# Altium footprint library 2019-09-27_18-48-38.PcbLib: 3 footprints
Each footprint in its own frame and in the unit in brackets; x right, y up, seen from the top. Pads: shape width x height; smd on the part's side, far side on the other; paste and mask are expansions set on the pad; w line width, h text height; cw(c..) or ccw(c..) is an arc to the next point about the centre after c.
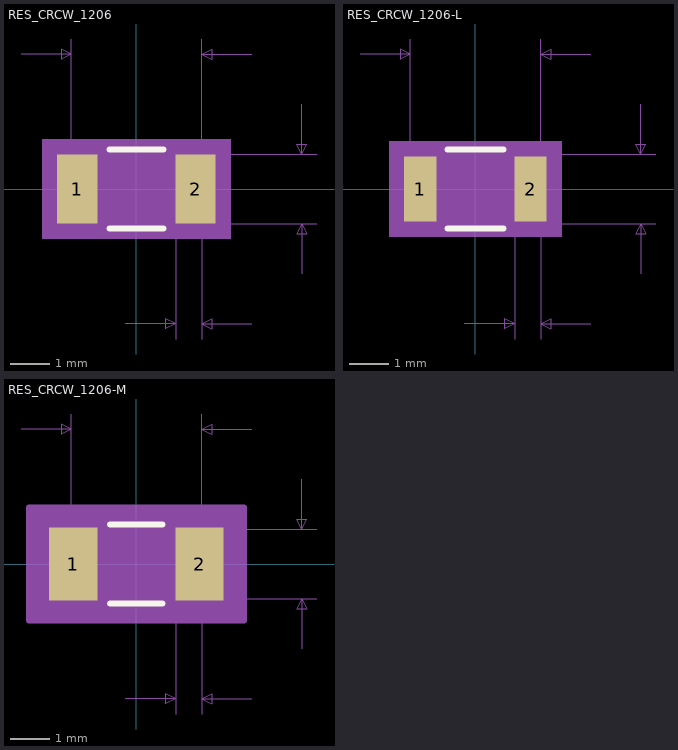
[diagram p0: the footprints below, top view; thin cyan lines are the x and y axes]

## RES_CRCW_1206 [mil]
pads (2):
  rect 40x69 smd paste+0 mask+0: 1(-59,0) 2(59,0)
Top Overlay:
  lines w6: -26.89,-39.5 26.89,-39.5 ; -26.89,39.5 26.89,39.5
Mechanical 5:
  region: 94,-49.5 -94,-49.5 -94,49.5 94,49.5
Mechanical 7:
  lines w1: -115,134.5 -65,134.5 ; -65,0 -65,149.5 ; -11,-134.5 39,-134.5 ; 0,-34.5 180,-34.5 ; 0,34.5 180,34.5 ; 39,-149.5 39,0 ; 65,-149.5 65,0 65,149.5 ; 115,-134.5 65,-134.5 ; 115,134.5 65,134.5 ; 165,-84.5 165,-34.5 ; 165,84.5 165,34.5 ; -65,134.5 -75,139.5 -75,129.5 -65,134.5 ; 39,-134.5 29,-129.5 29,-139.5 39,-134.5 ; 65,-134.5 75,-129.5 75,-139.5 65,-134.5 ; 65,134.5 75,139.5 75,129.5 65,134.5 ; 165,-34.5 160,-44.5 170,-44.5 165,-34.5 ; 165,34.5 160,44.5 170,44.5 165,34.5
  text "Default Padstyle: RX40Y69D0T" at -350,-304.5 h50
  text "Alternate 1 Padstyle: OX60Y90D30P" at -412.5,-404.5 h50
  text "Alternate 2 Padstyle: OX90Y60D30P" at -412.5,-504.5 h50
  text "0.069in/1.753mm" at 185,-12.5 h25
  text "0.13in/3.302mm" at -87.5,154.5 h25
  text "0.026in/0.66mm" at -35.5,-179.5 h25
Mechanical 13:
  lines w1: -65,-34.5 -65,34.5 ; -65,-34.5 -39,-34.5 -39,34.5 -65,34.5 ; -65,-34.5 65,-34.5 ; -65,-34.5 -65,34.5 ; -65,34.5 65,34.5 ; 65,-34.5 39,-34.5 39,34.5 65,34.5 ; 65,-34.5 65,34.5 ; 65,-34.5 65,34.5
Mechanical 15:
  region: 89,-44.5 -89,-44.5 -89,44.5 89,44.5
  lines w6: -89,-44.5 -89,44.5 89,44.5 89,-44.5 -89,-44.5
3D body: height 10, standoff 0, extent 0,0 10,10

## RES_CRCW_1206-L [mil]
pads (2):
  rect 32x65 smd paste+0 mask+0: 1(-55,0) 2(55,0)
Top Overlay:
  lines w6: -27.93,-39.5 27.93,-39.5 ; -27.93,39.5 27.93,39.5
Mechanical 5:
  region: 86,-47.5 -86,-47.5 -86,47.5 86,47.5
Mechanical 7:
  lines w1: -115,134.5 -65,134.5 ; -65,0 -65,149.5 ; -11,-134.5 39,-134.5 ; 0,-34.5 180,-34.5 ; 0,34.5 180,34.5 ; 39,-149.5 39,0 ; 65,-149.5 65,0 65,149.5 ; 115,-134.5 65,-134.5 ; 115,134.5 65,134.5 ; 165,-84.5 165,-34.5 ; 165,84.5 165,34.5 ; -65,134.5 -75,139.5 -75,129.5 -65,134.5 ; 39,-134.5 29,-129.5 29,-139.5 39,-134.5 ; 65,-134.5 75,-129.5 75,-139.5 65,-134.5 ; 65,134.5 75,139.5 75,129.5 65,134.5 ; 165,-34.5 160,-44.5 170,-44.5 165,-34.5 ; 165,34.5 160,44.5 170,44.5 165,34.5
  text "Default Padstyle: RX32Y65D0T" at -350,-302.5 h50
  text "Alternate 1 Padstyle: OX60Y90D30P" at -412.5,-402.5 h50
  text "Alternate 2 Padstyle: OX90Y60D30P" at -412.5,-502.5 h50
  text "0.069in/1.753mm" at 185,-12.5 h25
  text "0.13in/3.302mm" at -87.5,154.5 h25
  text "0.026in/0.66mm" at -35.5,-179.5 h25
Mechanical 13:
  lines w1: -65,-34.5 -65,34.5 ; -65,-34.5 -39,-34.5 -39,34.5 -65,34.5 ; -65,-34.5 65,-34.5 ; -65,-34.5 -65,34.5 ; -65,34.5 65,34.5 ; 65,-34.5 39,-34.5 39,34.5 65,34.5 ; 65,-34.5 65,34.5 ; 65,-34.5 65,34.5
Mechanical 15:
  region: 75,-36.5 -75,-36.5 -75,36.5 75,36.5
  lines w6: -75,-36.5 -75,36.5 75,36.5 75,-36.5 -75,-36.5
3D body: height 10, standoff 0, extent 0,0 10,10

## RES_CRCW_1206-M [mil]
pads (2):
  rect 48x73 smd paste+0 mask+0: 1(-63,0) 2(63,0)
Top Overlay:
  lines w6: -26.25,-39.5 26.25,-39.5 ; -26.25,39.5 26.25,39.5
Mechanical 5:
  region: 102,-51.5 -102,-51.5 -102,51.5 102,51.5
Mechanical 7:
  lines w1: -115,134.5 -65,134.5 ; -65,0 -65,149.5 ; -11,-134.5 39,-134.5 ; 0,-34.5 180,-34.5 ; 0,34.5 180,34.5 ; 39,-149.5 39,0 ; 65,-149.5 65,0 65,149.5 ; 115,-134.5 65,-134.5 ; 115,134.5 65,134.5 ; 165,-84.5 165,-34.5 ; 165,84.5 165,34.5 ; -65,134.5 -75,139.5 -75,129.5 -65,134.5 ; 39,-134.5 29,-129.5 29,-139.5 39,-134.5 ; 65,-134.5 75,-129.5 75,-139.5 65,-134.5 ; 65,134.5 75,139.5 75,129.5 65,134.5 ; 165,-34.5 160,-44.5 170,-44.5 165,-34.5 ; 165,34.5 160,44.5 170,44.5 165,34.5
  text "Default Padstyle: RX48Y73D0T" at -350,-306.5 h50
  text "Alternate 1 Padstyle: OX60Y90D30P" at -412.5,-406.5 h50
  text "Alternate 2 Padstyle: OX90Y60D30P" at -412.5,-506.5 h50
  text "0.069in/1.753mm" at 185,-12.5 h25
  text "0.13in/3.302mm" at -87.5,154.5 h25
  text "0.026in/0.66mm" at -35.5,-179.5 h25
Mechanical 13:
  lines w1: -65,-34.5 -65,34.5 ; -65,-34.5 -39,-34.5 -39,34.5 -65,34.5 ; -65,-34.5 65,-34.5 ; -65,-34.5 -65,34.5 ; -65,34.5 65,34.5 ; 65,-34.5 39,-34.5 39,34.5 65,34.5 ; 65,-34.5 65,34.5 ; 65,-34.5 65,34.5
Mechanical 15:
  region: 107,-56.5 -107,-56.5 -107,56.5 107,56.5
  lines w6: -107,-56.5 -107,56.5 107,56.5 107,-56.5 -107,-56.5
3D body: height 10, standoff 0, extent 0,0 10,10